# Altium schematic symbol library Mechanical.SchLib: 12 symbols
Pins are listed as number, name and electrical type; pins without a type are passive.

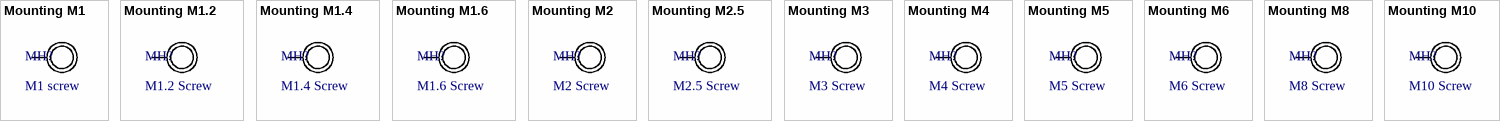
[diagram p0: symbols Mounting M1 to Mounting M10]

## Mounting M1
designator MH?, comment M1 screw  (mechanical)
footprint M1
footprint M1-3D
pins: 1

## Mounting M1.2
designator MH?, comment M1.2 Screw  (mechanical)
footprint M1.2
footprint M1.2-3D
pins: 1

## Mounting M1.4
designator MH?, comment M1.4 Screw  (mechanical)
footprint M1.4
footprint M1.4-3D
pins: 1

## Mounting M1.6
designator MH?, comment M1.6 Screw  (mechanical)
footprint M1.6
footprint M1.6-3D
pins: 1

## Mounting M2
designator MH?, comment M2 Screw  (mechanical)
footprint M2
footprint M2-3D
pins: 1

## Mounting M2.5
designator MH?, comment M2.5 Screw  (mechanical)
footprint M2.5
footprint M2.5-3D
pins: 1

## Mounting M3
designator MH?, comment M3 Screw  (mechanical)
footprint M3
footprint M3-3D
pins: 1

## Mounting M4
designator MH?, comment M4 Screw  (mechanical)
footprint M4
footprint M4-3D
pins: 1

## Mounting M5
designator MH?, comment M5 Screw  (mechanical)
footprint M5
footprint M5-3D
pins: 1

## Mounting M6
designator MH?, comment M6 Screw  (mechanical)
footprint M6
footprint M6-3D
pins: 1

## Mounting M8
designator MH?, comment M8 Screw  (mechanical)
footprint M8
footprint M8-3D
pins: 1

## Mounting M10
designator MH?, comment M10 Screw  (mechanical)
footprint M10
footprint M10-3D
pins: 1